# Altium schematic symbol library CRCW08054R70FKEAHP.SchLib: 1 symbol
Pins are listed as number, name and electrical type; pins without a type are passive.

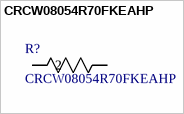
[diagram p0: symbol CRCW08054R70FKEAHP]

## CRCW08054R70FKEAHP
designator R?
CRCW0805-HP 100 4R7 1% ET1 E3; Manufacturer_Name: Vishay; Copyright: Copyright (C) 2025 Ultra Librarian. All rights reserved.; Manufacturer_Part_Number: CRCW08054R70FKEAHP
footprint RES_CRCW_0805_VIS
pins: 1, 2